# Altium schematic symbol library Reid Orthotic v2.SchLib: 3 symbols
Pins are listed as number, name and electrical type; pins without a type are passive.

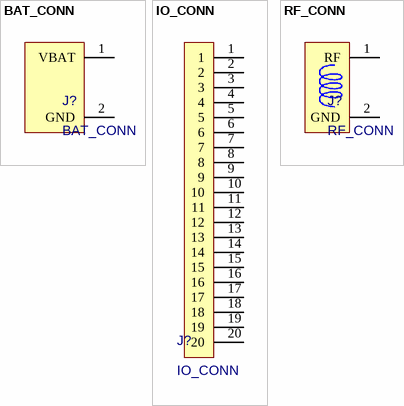
[diagram p0: symbols BAT_CONN to RF_CONN]

## BAT_CONN
designator J?
footprint BAT_CONN
pins: 1 VBAT, 2 GND

## IO_CONN
designator J?
footprint IO_CONN
pins: 1, 2, 3, 4, 5, 6, 7, 8, 9, 10, 11, 12, 13, 14, 15, 16, 17, 18, 19, 20

## RF_CONN
designator J?
footprint RF_CONN
pins: 1 RF, 2 GND